# Altium integrated library TI Logic Flip-Flop.IntLib: 904 symbols (part 1 of 21)
Pins are listed as number, name and electrical type; pins without a type are passive.

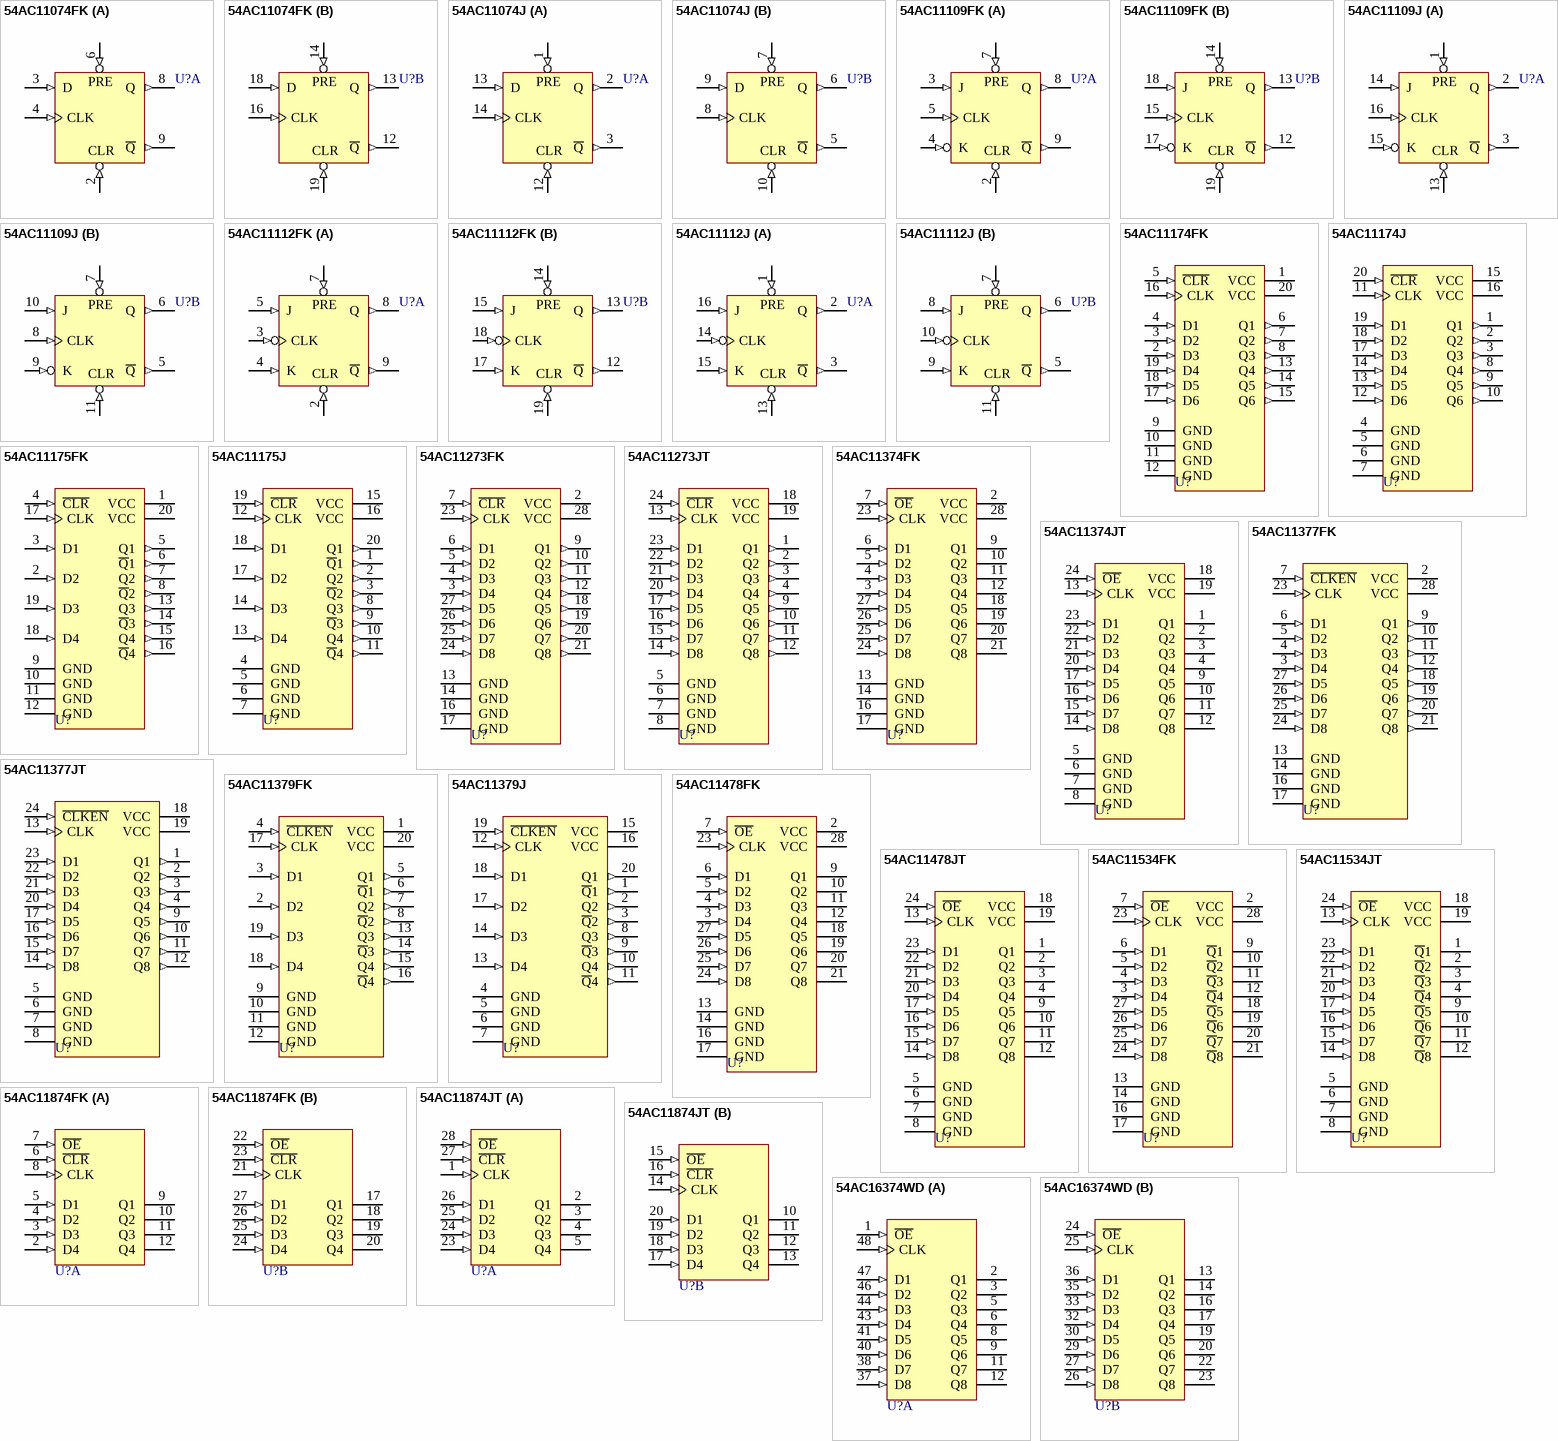
[diagram p0: symbols 54AC11074FK to 54AC16374WD]

## 54AC11074FK
designator U?
Dual D-Type Position-Edge-Triggered Flip-Flop with Clear and Preset; Note: Pins No 1,5,7,11,15 and 17 are not connected.; ComponentAvailability: Obsolete; Published: 8-Jun-2000; LatestRevisionDate: 17-Jul-2002; LatestRevisionNote: Re-released for DXP Platform.; DatasheetVersion: Mar-1990; PackageVersion: 1998; PackageReference: FK020D; Publisher: Altium Limited; PackageDescription: Leadless Chip Carrier; 20 Terminals; Body 8.9 x 8.9 mm; ComponentLink1Description: Manufacturer Link; ComponentLink1URL: http://www.ti.com/; ComponentLink2Description: Discontinuation Notice; ComponentLink2URL: http://focus.ti.com/pdfs/mltry/obsolete.pdf
footprint FK020D (Leadless Chip Carrier; 20 Terminals; Body 8.9 x 8.9 mm)
signal-integrity model 54AC11074FK
pins on every part: 10 GND (power) hidden to GND, 20 VCC (power) hidden to VCC
part A pins: 2 CLR (in), 3 D (in), 4 CLK (in), 6 PRE (in), 8 Q (out), 9 ~{Q} (out)
part B pins: 12 ~{Q} (out), 13 Q (out), 14 PRE (in), 16 CLK (in), 18 D (in), 19 CLR (in)

## 54AC11074J
designator U?
Dual D-Type Position-Edge-Triggered Flip-Flop with Clear and Preset; ComponentAvailability: Obsolete; Published: 8-Jun-2000; LatestRevisionDate: 04-Mar-2005; LatestRevisionNote: Stylized 3D Model Added.; DatasheetVersion: Mar-1990; PackageVersion: Jun-1999; PackageReference: J014D; Publisher: Altium Limited; PackageDescription: DIP; 14 Leads; Row Spacing 7.62 mm; Pitch 2.54 mm; ComponentLink1Description: Manufacturer Link; ComponentLink1URL: http://www.ti.com/; ComponentLink2Description: Discontinuation Notice; ComponentLink2URL: http://focus.ti.com/pdfs/mltry/obsolete.pdf
footprint J014D (DIP; 14 Leads; Row Spacing 7.62 mm; Pitch 2.54 mm)
3D model J014 (DIP; 14 Leads; Row Spacing 7.62 mm; Pitch 2.54 mm)
signal-integrity model 54AC11074J
pins on every part: 4 GND (power) hidden to GND, 11 VCC (power) hidden to VCC
part A pins: 1 PRE (in), 2 Q (out), 3 ~{Q} (out), 12 CLR (in), 13 D (in), 14 CLK (in)
part B pins: 5 ~{Q} (out), 6 Q (out), 7 PRE (in), 8 CLK (in), 9 D (in), 10 CLR (in)

## 54AC11109FK
designator U?
Dual J-K Positive-Edge-Triggered Flip-Flop with Clear and Preset; Note: Pins 1, 6,11 and 16 are not connected.; ComponentAvailability: Obsolete; Published: 8-Jun-2000; LatestRevisionDate: 17-Jul-2002; LatestRevisionNote: Re-released for DXP Platform.; DatasheetVersion: Mar-1990; PackageVersion: 1998; PackageReference: FK020D; Publisher: Altium Limited; PackageDescription: Leadless Chip Carrier; 20 Terminals; Body 8.9 x 8.9 mm; ComponentLink1Description: Manufacturer Link; ComponentLink1URL: http://www.ti.com/; ComponentLink2Description: Discontinuation Notice; ComponentLink2URL: http://focus.ti.com/pdfs/mltry/obsolete.pdf
footprint FK020D (Leadless Chip Carrier; 20 Terminals; Body 8.9 x 8.9 mm)
signal-integrity model 54AC11109FK
pins on every part: 10 GND (power) hidden to GND, 20 VCC (power) hidden to VCC
part A pins: 2 CLR (in), 3 J (in), 4 K (in), 5 CLK (in), 7 PRE (in), 8 Q (out), 9 ~{Q} (out)
part B pins: 12 ~{Q} (out), 13 Q (out), 14 PRE (in), 15 CLK (in), 17 K (in), 18 J (in), 19 CLR (in)

## 54AC11109J
designator U?
Dual J-K Positive-Edge-Triggered Flip-Flop with Clear and Preset; ComponentAvailability: Obsolete; Published: 8-Jun-2000; LatestRevisionDate: 04-Mar-2005; LatestRevisionNote: Stylized 3D Model Added.; DatasheetVersion: Mar-1990; PackageVersion: Jun-1999; PackageReference: J016D; Publisher: Altium Limited; PackageDescription: DIP; 16 Leads; Row Spacing 7.62 mm; Pitch 2.54 mm; ComponentLink1Description: Manufacturer Link; ComponentLink1URL: http://www.ti.com/; ComponentLink2Description: Discontinuation Notice; ComponentLink2URL: http://focus.ti.com/pdfs/mltry/obsolete.pdf
footprint J016D (DIP; 16 Leads; Row Spacing 7.62 mm; Pitch 2.54 mm)
3D model J016 (DIP; 16 Leads; Row Spacing 7.62 mm; Pitch 2.54 mm)
signal-integrity model 54AC11109J
pins on every part: 4 GND (power) hidden to GND, 12 VCC (power) hidden to VCC
part A pins: 1 PRE (in), 2 Q (out), 3 ~{Q} (out), 13 CLR (in), 14 J (in), 15 K (in), 16 CLK (in)
part B pins: 5 ~{Q} (out), 6 Q (out), 7 PRE (in), 8 CLK (in), 9 K (in), 10 J (in), 11 CLR (in)

## 54AC11112FK
designator U?
Dual J-K Negative-Edge-Triggered Flip-Flop with Clear and Preset; Note: Pins 1, 6,11 and 16 are not connected; Published: 8-Jun-2000; LatestRevisionDate: 17-Jul-2002; LatestRevisionNote: Re-released for DXP Platform.; DatasheetVersion: Mar-1990; PackageVersion: 1998; PackageReference: FK020D; Publisher: Altium Limited; PackageDescription: Leadless Chip Carrier; 20 Terminals; Body 8.9 x 8.9 mm; ComponentLink1Description: Manufacturer Link; ComponentLink1URL: http://www.ti.com/; ComponentLink2Description: Datasheet; ComponentLink2URL: http://www-s.ti.com/sc/ds/74ac11112.pdf
footprint FK020D (Leadless Chip Carrier; 20 Terminals; Body 8.9 x 8.9 mm)
signal-integrity model 54AC11112FK
pins on every part: 10 GND (power) hidden to GND, 20 VCC (power) hidden to VCC
part A pins: 2 CLR (in), 3 CLK (in), 4 K (in), 5 J (in), 7 PRE (in), 8 Q (out), 9 ~{Q} (out)
part B pins: 12 ~{Q} (out), 13 Q (out), 14 PRE (in), 15 J (in), 17 K (in), 18 CLK (in), 19 CLR (in)

## 54AC11112J
designator U?
Dual J-K Negative-Edge-Triggered Flip-Flop with Clear and Preset; Published: 8-Jun-2000; LatestRevisionDate: 04-Mar-2005; LatestRevisionNote: Stylized 3D Model Added.; DatasheetVersion: Mar-1990; PackageVersion: Jun-1999; PackageReference: J016D; Publisher: Altium Limited; PackageDescription: DIP; 16 Leads; Row Spacing 7.62 mm; Pitch 2.54 mm; ComponentLink1Description: Manufacturer Link; ComponentLink1URL: http://www.ti.com/; ComponentLink2Description: Datasheet; ComponentLink2URL: http://www-s.ti.com/sc/ds/74ac11112.pdf
footprint J016D (DIP; 16 Leads; Row Spacing 7.62 mm; Pitch 2.54 mm)
3D model J016 (DIP; 16 Leads; Row Spacing 7.62 mm; Pitch 2.54 mm)
signal-integrity model 54AC11112J
pins on every part: 4 GND (power) hidden to GND, 12 VCC (power) hidden to VCC
part A pins: 1 PRE (in), 2 Q (out), 3 ~{Q} (out), 13 CLR (in), 14 CLK (in), 15 K (in), 16 J (in)
part B pins: 5 ~{Q} (out), 6 Q (out), 7 PRE (in), 8 J (in), 9 K (in), 10 CLK (in), 11 CLR (in)

## 54AC11174FK
designator U?
Hex D-Type Flip-Flop with Clear; Published: 8-Jun-2000; LatestRevisionDate: 17-Jul-2002; LatestRevisionNote: Re-released for DXP Platform.; DatasheetVersion: Mar-1990; PackageVersion: 1998; PackageReference: FK020D; Publisher: Altium Limited; PackageDescription: Leadless Chip Carrier; 20 Terminals; Body 8.9 x 8.9 mm; ComponentLink1Description: Manufacturer Link; ComponentLink1URL: http://www.ti.com/
footprint FK020D (Leadless Chip Carrier; 20 Terminals; Body 8.9 x 8.9 mm)
signal-integrity model 54AC11174FK
pins: 1 VCC (power), 2 D3 (in), 3 D2 (in), 4 D1 (in), 5 ~{CLR} (in), 6 Q1 (out), 7 Q2 (out), 8 Q3 (out), 9 GND (power), 10 GND (power), 11 GND (power), 12 GND (power), 13 Q4 (out), 14 Q5 (out), 15 Q6 (out), 16 CLK (in), 17 D6 (in), 18 D5 (in), 19 D4 (in), 20 VCC (power)

## 54AC11174J
designator U?
Hex D-Type Flip-Flop with Clear; Published: 8-Jun-2000; LatestRevisionDate: 04-Mar-2005; LatestRevisionNote: Stylized 3D Model Added.; DatasheetVersion: Mar-1990; PackageVersion: Jun-1999; PackageReference: J020D; Publisher: Altium Limited; PackageDescription: DIP; 20 Leads; Row Spacing 7.62 mm; Pitch 2.54 mm; ComponentLink1Description: Manufacturer Link; ComponentLink1URL: http://www.ti.com/
footprint J020D (DIP; 20 Leads; Row Spacing 7.62 mm; Pitch 2.54 mm)
3D model J020 (DIP; 20 Leads; Row Spacing 7.62 mm; Pitch 2.54 mm)
signal-integrity model 54AC11174J
pins: 1 Q1 (out), 2 Q2 (out), 3 Q3 (out), 4 GND (power), 5 GND (power), 6 GND (power), 7 GND (power), 8 Q4 (out), 9 Q5 (out), 10 Q6 (out), 11 CLK (in), 12 D6 (in), 13 D5 (in), 14 D4 (in), 15 VCC (power), 16 VCC (power), 17 D3 (in), 18 D2 (in), 19 D1 (in), 20 ~{CLR} (in)

## 54AC11175FK
designator U?
Quadruple D-Type Flip-Flop with Clear; Published: 8-Jun-2000; LatestRevisionDate: 17-Jul-2002; LatestRevisionNote: Re-released for DXP Platform.; DatasheetVersion: Mar-1990; PackageVersion: 1998; PackageReference: FK020D; Publisher: Altium Limited; PackageDescription: Leadless Chip Carrier; 20 Terminals; Body 8.9 x 8.9 mm; ComponentLink1Description: Manufacturer Link; ComponentLink1URL: http://www.ti.com/; ComponentLink2Description: Datasheet; ComponentLink2URL: http://www-s.ti.com/sc/ds/74ac11175.pdf
footprint FK020D (Leadless Chip Carrier; 20 Terminals; Body 8.9 x 8.9 mm)
signal-integrity model 54AC11175FK
pins: 1 VCC (power), 2 D2 (in), 3 D1 (in), 4 ~{CLR} (in), 5 Q1 (out), 6 ~{Q}1 (out), 7 Q2 (out), 8 ~{Q}2 (out), 9 GND (power), 10 GND (power), 11 GND (power), 12 GND (power), 13 Q3 (out), 14 ~{Q}3 (out), 15 Q4 (out), 16 ~{Q}4 (out), 17 CLK (in), 18 D4 (in), 19 D3 (in), 20 VCC (power)

## 54AC11175J
designator U?
Quadruple D-Type Flip-Flop with Clear; Published: 8-Jun-2000; LatestRevisionDate: 04-Mar-2005; LatestRevisionNote: Stylized 3D Model Added.; DatasheetVersion: Mar-1990; PackageVersion: Jun-1999; PackageReference: J020D; Publisher: Altium Limited; PackageDescription: DIP; 20 Leads; Row Spacing 7.62 mm; Pitch 2.54 mm; ComponentLink1Description: Manufacturer Link; ComponentLink1URL: http://www.ti.com/; ComponentLink2Description: Datasheet; ComponentLink2URL: http://www-s.ti.com/sc/ds/74ac11175.pdf
footprint J020D (DIP; 20 Leads; Row Spacing 7.62 mm; Pitch 2.54 mm)
3D model J020 (DIP; 20 Leads; Row Spacing 7.62 mm; Pitch 2.54 mm)
signal-integrity model 54AC11175J
pins: 1 ~{Q}1 (out), 2 Q2 (out), 3 ~{Q}2 (out), 4 GND (power), 5 GND (power), 6 GND (power), 7 GND (power), 8 Q3 (out), 9 ~{Q}3 (out), 10 Q4 (out), 11 ~{Q}4 (out), 12 CLK (in), 13 D4 (in), 14 D3 (in), 15 VCC (power), 16 VCC (power), 17 D2 (in), 18 D1 (in), 19 ~{CLR} (in), 20 Q1 (out)

## 54AC11273FK
designator U?
Octal D-Type Flip-Flop with Clear; Note: Pins No 1,8,15 and 22 are not connected.; Published: 8-Jun-2000; LatestRevisionDate: 17-Jul-2002; LatestRevisionNote: Re-released for DXP Platform.; DatasheetVersion: Mar-1990; PackageVersion: 1998; PackageReference: FK028D; Publisher: Altium Limited; PackageDescription: Leadless Chip Carrier; 28 Terminals; Body 11.4 x 11.4 mm; ComponentLink1Description: Manufacturer Link; ComponentLink1URL: http://www.ti.com/
footprint FK028D (Leadless Chip Carrier; 28 Terminals; Body 11.4 x 11.4 mm)
signal-integrity model 54AC11273FK
pins: 2 VCC (power), 3 D4 (in), 4 D3 (in), 5 D2 (in), 6 D1 (in), 7 ~{CLR} (in), 9 Q1 (out), 10 Q2 (out), 11 Q3 (out), 12 Q4 (out), 13 GND (power), 14 GND (power), 16 GND (power), 17 GND (power), 18 Q5 (out), 19 Q6 (out), 20 Q7 (out), 21 Q8 (out), 23 CLK (in), 24 D8 (in), 25 D7 (in), 26 D6 (in), 27 D5 (in), 28 VCC (power)

## 54AC11273JT
designator U?
Octal D-Type Flip-Flop with Clear; Published: 8-Jun-2000; LatestRevisionDate: 04-Mar-2005; LatestRevisionNote: Stylized 3D Model Added.; DatasheetVersion: Mar-1990; PackageVersion: Jan-1997; PackageReference: JT024D; Publisher: Altium Limited; PackageDescription: DIP; 24 Leads; Row Spacing 7.62 mm; Pitch 2.54 mm; Code_JEDEC: MS-001-AF; ComponentLink1Description: Manufacturer Link; ComponentLink1URL: http://www.ti.com/
footprint JT024D (DIP; 24 Leads; Row Spacing 7.62 mm; Pitch 2.54 mm)
3D model JT024 (DIP; 24 Leads; Row Spacing 7.62 mm; Pitch 2.54 mm)
signal-integrity model 54AC11273JT
pins: 1 Q1 (out), 2 Q2 (out), 3 Q3 (out), 4 Q4 (out), 5 GND (power), 6 GND (power), 7 GND (power), 8 GND (power), 9 Q5 (out), 10 Q6 (out), 11 Q7 (out), 12 Q8 (out), 13 CLK (in), 14 D8 (in), 15 D7 (in), 16 D6 (in), 17 D5 (in), 18 VCC (power), 19 VCC (power), 20 D4 (in), 21 D3 (in), 22 D2 (in), 23 D1 (in), 24 ~{CLR} (in)

## 54AC11374FK
designator U?
Octal D-Type Edge-Triggered Flip-Flop with 3-State Outputs; Note: Pins No 1,8,15 and 22 are not connected.; ComponentAvailability: Obsolete; Published: 8-Jun-2000; LatestRevisionDate: 17-Jul-2002; LatestRevisionNote: Re-released for DXP Platform.; DatasheetVersion: Mar-1990; PackageVersion: 1998; PackageReference: FK028D; Publisher: Altium Limited; PackageDescription: Leadless Chip Carrier; 28 Terminals; Body 11.4 x 11.4 mm; ComponentLink1Description: Manufacturer Link; ComponentLink1URL: http://www.ti.com/; ComponentLink2Description: Discontinuation Notice; ComponentLink2URL: http://focus.ti.com/pdfs/mltry/obsolete.pdf
footprint FK028D (Leadless Chip Carrier; 28 Terminals; Body 11.4 x 11.4 mm)
signal-integrity model 54AC11374FK
pins: 2 VCC (power), 3 D4 (in), 4 D3 (in), 5 D2 (in), 6 D1 (in), 7 ~{OE} (in), 9 Q1 (hiz), 10 Q2 (hiz), 11 Q3 (hiz), 12 Q4 (hiz), 13 GND (power), 14 GND (power), 16 GND (power), 17 GND (power), 18 Q5 (hiz), 19 Q6 (hiz), 20 Q7 (hiz), 21 Q8 (hiz), 23 CLK (in), 24 D8 (in), 25 D7 (in), 26 D6 (in), 27 D5 (in), 28 VCC (power)

## 54AC11374JT
designator U?
Octal D-Type Edge-Triggered Flip-Flop with 3-State Outputs; ComponentAvailability: Obsolete; Published: 8-Jun-2000; LatestRevisionDate: 04-Mar-2005; LatestRevisionNote: Stylized 3D Model Added.; DatasheetVersion: Mar-1990; PackageVersion: Jan-1997; PackageReference: JT024D; Publisher: Altium Limited; PackageDescription: DIP; 24 Leads; Row Spacing 7.62 mm; Pitch 2.54 mm; Code_JEDEC: MS-001-AF; ComponentLink1Description: Manufacturer Link; ComponentLink1URL: http://www.ti.com/; ComponentLink2Description: Discontinuation Notice; ComponentLink2URL: http://focus.ti.com/pdfs/mltry/obsolete.pdf
footprint JT024D (DIP; 24 Leads; Row Spacing 7.62 mm; Pitch 2.54 mm)
3D model JT024 (DIP; 24 Leads; Row Spacing 7.62 mm; Pitch 2.54 mm)
signal-integrity model 54AC11374JT
pins: 1 Q1 (hiz), 2 Q2 (hiz), 3 Q3 (hiz), 4 Q4 (hiz), 5 GND (power), 6 GND (power), 7 GND (power), 8 GND (power), 9 Q5 (hiz), 10 Q6 (hiz), 11 Q7 (hiz), 12 Q8 (hiz), 13 CLK (in), 14 D8 (in), 15 D7 (in), 16 D6 (in), 17 D5 (in), 18 VCC (power), 19 VCC (power), 20 D4 (in), 21 D3 (in), 22 D2 (in), 23 D1 (in), 24 ~{OE} (in)

## 54AC11377FK
designator U?
Octal D-Type Flip-Flop with Clock Enable; Note: Pins No 1,8,15 and 22 are not connected.; Published: 8-Jun-2000; LatestRevisionDate: 17-Jul-2002; LatestRevisionNote: Re-released for DXP Platform.; DatasheetVersion: Mar-1990; PackageVersion: 1998; PackageReference: FK028D; Publisher: Altium Limited; PackageDescription: Leadless Chip Carrier; 28 Terminals; Body 11.4 x 11.4 mm; ComponentLink1Description: Manufacturer Link; ComponentLink1URL: http://www.ti.com/
footprint FK028D (Leadless Chip Carrier; 28 Terminals; Body 11.4 x 11.4 mm)
signal-integrity model 54AC11377FK
pins: 2 VCC (power), 3 D4 (in), 4 D3 (in), 5 D2 (in), 6 D1 (in), 7 ~{CLKEN} (in), 9 Q1 (out), 10 Q2 (out), 11 Q3 (out), 12 Q4 (out), 13 GND (power), 14 GND (power), 16 GND (power), 17 GND (power), 18 Q5 (out), 19 Q6 (out), 20 Q7 (out), 21 Q8 (out), 23 CLK (in), 24 D8 (in), 25 D7 (in), 26 D6 (in), 27 D5 (in), 28 VCC (power)

## 54AC11377JT
designator U?
Octal D-Type Flip-Flop with Clock Enable; Published: 8-Jun-2000; LatestRevisionDate: 04-Mar-2005; LatestRevisionNote: Stylized 3D Model Added.; DatasheetVersion: Mar-1990; PackageVersion: Jan-1997; PackageReference: JT024D; Publisher: Altium Limited; PackageDescription: DIP; 24 Leads; Row Spacing 7.62 mm; Pitch 2.54 mm; Code_JEDEC: MS-001-AF; ComponentLink1Description: Manufacturer Link; ComponentLink1URL: http://www.ti.com/
footprint JT024D (DIP; 24 Leads; Row Spacing 7.62 mm; Pitch 2.54 mm)
3D model JT024 (DIP; 24 Leads; Row Spacing 7.62 mm; Pitch 2.54 mm)
signal-integrity model 54AC11377JT
pins: 1 Q1 (out), 2 Q2 (out), 3 Q3 (out), 4 Q4 (out), 5 GND (power), 6 GND (power), 7 GND (power), 8 GND (power), 9 Q5 (out), 10 Q6 (out), 11 Q7 (out), 12 Q8 (out), 13 CLK (in), 14 D8 (in), 15 D7 (in), 16 D6 (in), 17 D5 (in), 18 VCC (power), 19 VCC (power), 20 D4 (in), 21 D3 (in), 22 D2 (in), 23 D1 (in), 24 ~{CLKEN} (in)

## 54AC11379FK
designator U?
Quadruple D-Type Flip-Flop with Clock Enable; Published: 8-Jun-2000; LatestRevisionDate: 17-Jul-2002; LatestRevisionNote: Re-released for DXP Platform.; DatasheetVersion: Mar-1990; PackageVersion: 1998; PackageReference: FK020D; Publisher: Altium Limited; PackageDescription: Leadless Chip Carrier; 20 Terminals; Body 8.9 x 8.9 mm; ComponentLink1Description: Manufacturer Link; ComponentLink1URL: http://www.ti.com/
footprint FK020D (Leadless Chip Carrier; 20 Terminals; Body 8.9 x 8.9 mm)
signal-integrity model 54AC11379FK
pins: 1 VCC (power), 2 D2 (in), 3 D1 (in), 4 ~{CLKEN} (in), 5 Q1 (out), 6 ~{Q}1 (out), 7 Q2 (out), 8 ~{Q}2 (out), 9 GND (power), 10 GND (power), 11 GND (power), 12 GND (power), 13 Q3 (out), 14 ~{Q}3 (out), 15 Q4 (out), 16 ~{Q}4 (out), 17 CLK (in), 18 D4 (in), 19 D3 (in), 20 VCC (power)

## 54AC11379J
designator U?
Quadruple D-Type Flip-Flop with Clock Enable; Published: 8-Jun-2000; LatestRevisionDate: 04-Mar-2005; LatestRevisionNote: Stylized 3D Model Added.; DatasheetVersion: Mar-1990; PackageVersion: Jun-1999; PackageReference: J020D; Publisher: Altium Limited; PackageDescription: DIP; 20 Leads; Row Spacing 7.62 mm; Pitch 2.54 mm; ComponentLink1Description: Manufacturer Link; ComponentLink1URL: http://www.ti.com/
footprint J020D (DIP; 20 Leads; Row Spacing 7.62 mm; Pitch 2.54 mm)
3D model J020 (DIP; 20 Leads; Row Spacing 7.62 mm; Pitch 2.54 mm)
signal-integrity model 54AC11379J
pins: 1 ~{Q}1 (out), 2 Q2 (out), 3 ~{Q}2 (out), 4 GND (power), 5 GND (power), 6 GND (power), 7 GND (power), 8 Q3 (out), 9 ~{Q}3 (out), 10 Q4 (out), 11 ~{Q}4 (out), 12 CLK (in), 13 D4 (in), 14 D3 (in), 15 VCC (power), 16 VCC (power), 17 D2 (in), 18 D1 (in), 19 ~{CLKEN} (in), 20 Q1 (out)

## 54AC11478FK
designator U?
Metastable-Resistant Octal D-Type Dual-Rank Flip-Flop with 3-State Output; Note: Pins No 1,8,15 and 22 are not connected.; Published: 8-Jun-2000; LatestRevisionDate: 17-Jul-2002; LatestRevisionNote: Re-released for DXP Platform.; DatasheetVersion: Apr-1990; PackageVersion: 1998; PackageReference: FK028D; Publisher: Altium Limited; PackageDescription: Leadless Chip Carrier; 28 Terminals; Body 11.4 x 11.4 mm; ComponentLink1Description: Manufacturer Link; ComponentLink1URL: http://www.ti.com/
footprint FK028D (Leadless Chip Carrier; 28 Terminals; Body 11.4 x 11.4 mm)
signal-integrity model 54AC11478FK
pins: 2 VCC (power), 3 D4 (in), 4 D3 (in), 5 D2 (in), 6 D1 (in), 7 ~{OE} (in), 9 Q1 (hiz), 10 Q2 (hiz), 11 Q3 (hiz), 12 Q4 (hiz), 13 GND (power), 14 GND (power), 16 GND (power), 17 GND (power), 18 Q5 (hiz), 19 Q6 (hiz), 20 Q7 (hiz), 21 Q8 (hiz), 23 CLK (in), 24 D8 (in), 25 D7 (in), 26 D6 (in), 27 D5 (in), 28 VCC (power)

## 54AC11478JT
designator U?
Metastable-Resistant Octal D-Type Dual-Rank Flip-Flop with 3-State Output; Published: 8-Jun-2000; LatestRevisionDate: 04-Mar-2005; LatestRevisionNote: Stylized 3D Model Added.; DatasheetVersion: Apr-1990; PackageVersion: Jan-1997; PackageReference: JT024D; Publisher: Altium Limited; PackageDescription: DIP; 24 Leads; Row Spacing 7.62 mm; Pitch 2.54 mm; Code_JEDEC: MS-001-AF; ComponentLink1Description: Manufacturer Link; ComponentLink1URL: http://www.ti.com/
footprint JT024D (DIP; 24 Leads; Row Spacing 7.62 mm; Pitch 2.54 mm)
3D model JT024 (DIP; 24 Leads; Row Spacing 7.62 mm; Pitch 2.54 mm)
signal-integrity model 54AC11478JT
pins: 1 Q1 (hiz), 2 Q2 (hiz), 3 Q3 (hiz), 4 Q4 (hiz), 5 GND (power), 6 GND (power), 7 GND (power), 8 GND (power), 9 Q5 (hiz), 10 Q6 (hiz), 11 Q7 (hiz), 12 Q8 (hiz), 13 CLK (in), 14 D8 (in), 15 D7 (in), 16 D6 (in), 17 D5 (in), 18 VCC (power), 19 VCC (power), 20 D4 (in), 21 D3 (in), 22 D2 (in), 23 D1 (in), 24 ~{OE} (in)

## 54AC11534FK
designator U?
Octal D-Type Edge-Triggered Flip-Flop with 3-State Outputs; Note: Pins No 1,8,15 and 22 are not connected.; Published: 8-Jun-2000; LatestRevisionDate: 17-Jul-2002; LatestRevisionNote: Re-released for DXP Platform.; DatasheetVersion: Mar-1990; PackageVersion: 1998; PackageReference: FK028D; Publisher: Altium Limited; PackageDescription: Leadless Chip Carrier; 28 Terminals; Body 11.4 x 11.4 mm; ComponentLink1Description: Manufacturer Link; ComponentLink1URL: http://www.ti.com/; ComponentLink2Description: Datasheet; ComponentLink2URL: http://www-s.ti.com/sc/ds/74ac11534.pdf
footprint FK028D (Leadless Chip Carrier; 28 Terminals; Body 11.4 x 11.4 mm)
signal-integrity model 54AC11534FK
pins: 2 VCC (power), 3 D4 (in), 4 D3 (in), 5 D2 (in), 6 D1 (in), 7 ~{OE} (in), 9 ~{Q}1 (hiz), 10 ~{Q}2 (hiz), 11 ~{Q}3 (hiz), 12 ~{Q}4 (hiz), 13 GND (power), 14 GND (power), 16 GND (power), 17 GND (power), 18 ~{Q}5 (hiz), 19 ~{Q}6 (hiz), 20 ~{Q}7 (hiz), 21 ~{Q}8 (hiz), 23 CLK (in), 24 D8 (in), 25 D7 (in), 26 D6 (in), 27 D5 (in), 28 VCC (power)

## 54AC11534JT
designator U?
Octal D-Type Edge-Triggered Flip-Flop with 3-State Outputs; Published: 8-Jun-2000; LatestRevisionDate: 04-Mar-2005; LatestRevisionNote: Stylized 3D Model Added.; DatasheetVersion: Mar-1990; PackageVersion: Jan-1997; PackageReference: JT024D; Publisher: Altium Limited; PackageDescription: DIP; 24 Leads; Row Spacing 7.62 mm; Pitch 2.54 mm; Code_JEDEC: MS-001-AF; ComponentLink1Description: Manufacturer Link; ComponentLink1URL: http://www.ti.com/; ComponentLink2Description: Datasheet; ComponentLink2URL: http://www-s.ti.com/sc/ds/74ac11534.pdf
footprint JT024D (DIP; 24 Leads; Row Spacing 7.62 mm; Pitch 2.54 mm)
3D model JT024 (DIP; 24 Leads; Row Spacing 7.62 mm; Pitch 2.54 mm)
signal-integrity model 54AC11534JT
pins: 1 ~{Q}1 (hiz), 2 ~{Q}2 (hiz), 3 ~{Q}3 (hiz), 4 ~{Q}4 (hiz), 5 GND (power), 6 GND (power), 7 GND (power), 8 GND (power), 9 ~{Q}5 (hiz), 10 ~{Q}6 (hiz), 11 ~{Q}7 (hiz), 12 ~{Q}8 (hiz), 13 CLK (in), 14 D8 (in), 15 D7 (in), 16 D6 (in), 17 D5 (in), 18 VCC (power), 19 VCC (power), 20 D4 (in), 21 D3 (in), 22 D2 (in), 23 D1 (in), 24 ~{OE} (in)

## 54AC11874FK
designator U?
Dual 4-Bit D-Type Edge-Triggered Flip-Flop with 3-State Outputs; Published: 8-Jun-2000; LatestRevisionDate: 17-Jul-2002; LatestRevisionNote: Re-released for DXP Platform.; DatasheetVersion: Mar-1990; PackageVersion: 1998; PackageReference: FK028D; Publisher: Altium Limited; PackageDescription: Leadless Chip Carrier; 28 Terminals; Body 11.4 x 11.4 mm; ComponentLink1Description: Manufacturer Link; ComponentLink1URL: http://www.ti.com/
footprint FK028D (Leadless Chip Carrier; 28 Terminals; Body 11.4 x 11.4 mm)
signal-integrity model 54AC11874FK
pins on every part: 1 VCC (power) hidden to VCC, 13 GND (power) hidden to GND, 14 GND (power) hidden to GND, 15 GND (power) hidden to GND, 16 GND (power) hidden to GND, 28 VCC (power) hidden to VCC
part A pins: 2 D4 (in), 3 D3 (in), 4 D2 (in), 5 D1 (in), 6 ~{CLR} (in), 7 ~{OE} (in), 8 CLK (in), 9 Q1 (hiz), 10 Q2 (hiz), 11 Q3 (hiz), 12 Q4 (hiz)
part B pins: 17 Q1 (hiz), 18 Q2 (hiz), 19 Q3 (hiz), 20 Q4 (hiz), 21 CLK (in), 22 ~{OE} (in), 23 ~{CLR} (in), 24 D4 (in), 25 D3 (in), 26 D2 (in), 27 D1 (in)

## 54AC11874JT
designator U?
Dual 4-Bit D-Type Edge-Triggered Flip-Flop with 3-State Outputs; Published: 8-Jun-2000; LatestRevisionDate: 04-Mar-2005; LatestRevisionNote: Stylized 3D Model Added.; DatasheetVersion: Mar-1990; PackageVersion: Jan-1997; PackageReference: JT028D; Publisher: Altium Limited; PackageDescription: DIP; 28 Leads; Row Spacing 7.62 mm; Pitch 2.54 mm; ComponentLink1Description: Manufacturer Link; ComponentLink1URL: http://www.ti.com/
footprint JT028D (DIP; 28 Leads; Row Spacing 7.62 mm; Pitch 2.54 mm)
3D model JT028 (DIP; 28 Leads; Row Spacing 7.62 mm; Pitch 2.54 mm)
signal-integrity model 54AC11874JT
pins on every part: 6 GND (power) hidden to GND, 7 GND (power) hidden to GND, 8 GND (power) hidden to GND, 9 GND (power) hidden to GND, 21 VCC (power) hidden to VCC, 22 VCC (power) hidden to VCC
part A pins: 1 CLK (in), 2 Q1 (hiz), 3 Q2 (hiz), 4 Q3 (hiz), 5 Q4 (hiz), 23 D4 (in), 24 D3 (in), 25 D2 (in), 26 D1 (in), 27 ~{CLR} (in), 28 ~{OE} (in)
part B pins: 10 Q1 (hiz), 11 Q2 (hiz), 12 Q3 (hiz), 13 Q4 (hiz), 14 CLK (in), 15 ~{OE} (in), 16 ~{CLR} (in), 17 D4 (in), 18 D3 (in), 19 D2 (in), 20 D1 (in)

## 54AC16374WD
designator U?
16-Bit D-Type Edge-Triggered Flip-Flop with 3-State Outputs; Published: 8-Jun-2000; LatestRevisionDate: 04-Mar-2005; LatestRevisionNote: Stylized 3D Model Added.; DatasheetVersion: Mar-1990; PackageVersion: Jan-1998; PackageReference: WD048; Publisher: Altium Limited; PackageDescription: DFP; 48 Leads; Body 16.3 x 9.9 mm (LxW max); Pitch 0.635 mm; Code_JEDEC: MO-146-AA; ComponentLink1Description: Manufacturer Link; ComponentLink1URL: http://www.ti.com/; ComponentLink2Description: Datasheet; ComponentLink2URL: http://www-s.ti.com/sc/ds/74ac16374.pdf
footprint WD048 (DFP; 48 Leads; Body 16.3 x 9.9 mm (LxW max); Pitch 0.635 mm)
3D model WD048 (DFP; 48 Leads; Body 16.3 x 9.9 mm (LxW max); Pitch 0.635 mm)
signal-integrity model 54AC16374WD
pins on every part: 4 GND (power) hidden to GND, 7 VCC (power) hidden to VCC, 10 GND (power) hidden to GND, 15 GND (power) hidden to GND, 18 VCC (power) hidden to VCC, 21 GND (power) hidden to GND, 28 GND (power) hidden to GND, 31 VCC (power) hidden to VCC, 34 GND (power) hidden to GND, 39 GND (power) hidden to GND, 42 VCC (power) hidden to VCC, 45 GND (power) hidden to GND
part A pins: 1 ~{OE} (in), 2 Q1 (hiz), 3 Q2 (hiz), 5 Q3 (hiz), 6 Q4 (hiz), 8 Q5 (hiz), 9 Q6 (hiz), 11 Q7 (hiz), 12 Q8 (hiz), 37 D8 (in), 38 D7 (in), 40 D6 (in), 41 D5 (in), 43 D4 (in), 44 D3 (in), 46 D2 (in), 47 D1 (in), 48 CLK (in)
part B pins: 13 Q1 (hiz), 14 Q2 (hiz), 16 Q3 (hiz), 17 Q4 (hiz), 19 Q5 (hiz), 20 Q6 (hiz), 22 Q7 (hiz), 23 Q8 (hiz), 24 ~{OE} (in), 25 CLK (in), 26 D8 (in), 27 D7 (in), 29 D6 (in), 30 D5 (in), 32 D4 (in), 33 D3 (in), 35 D2 (in), 36 D1 (in)

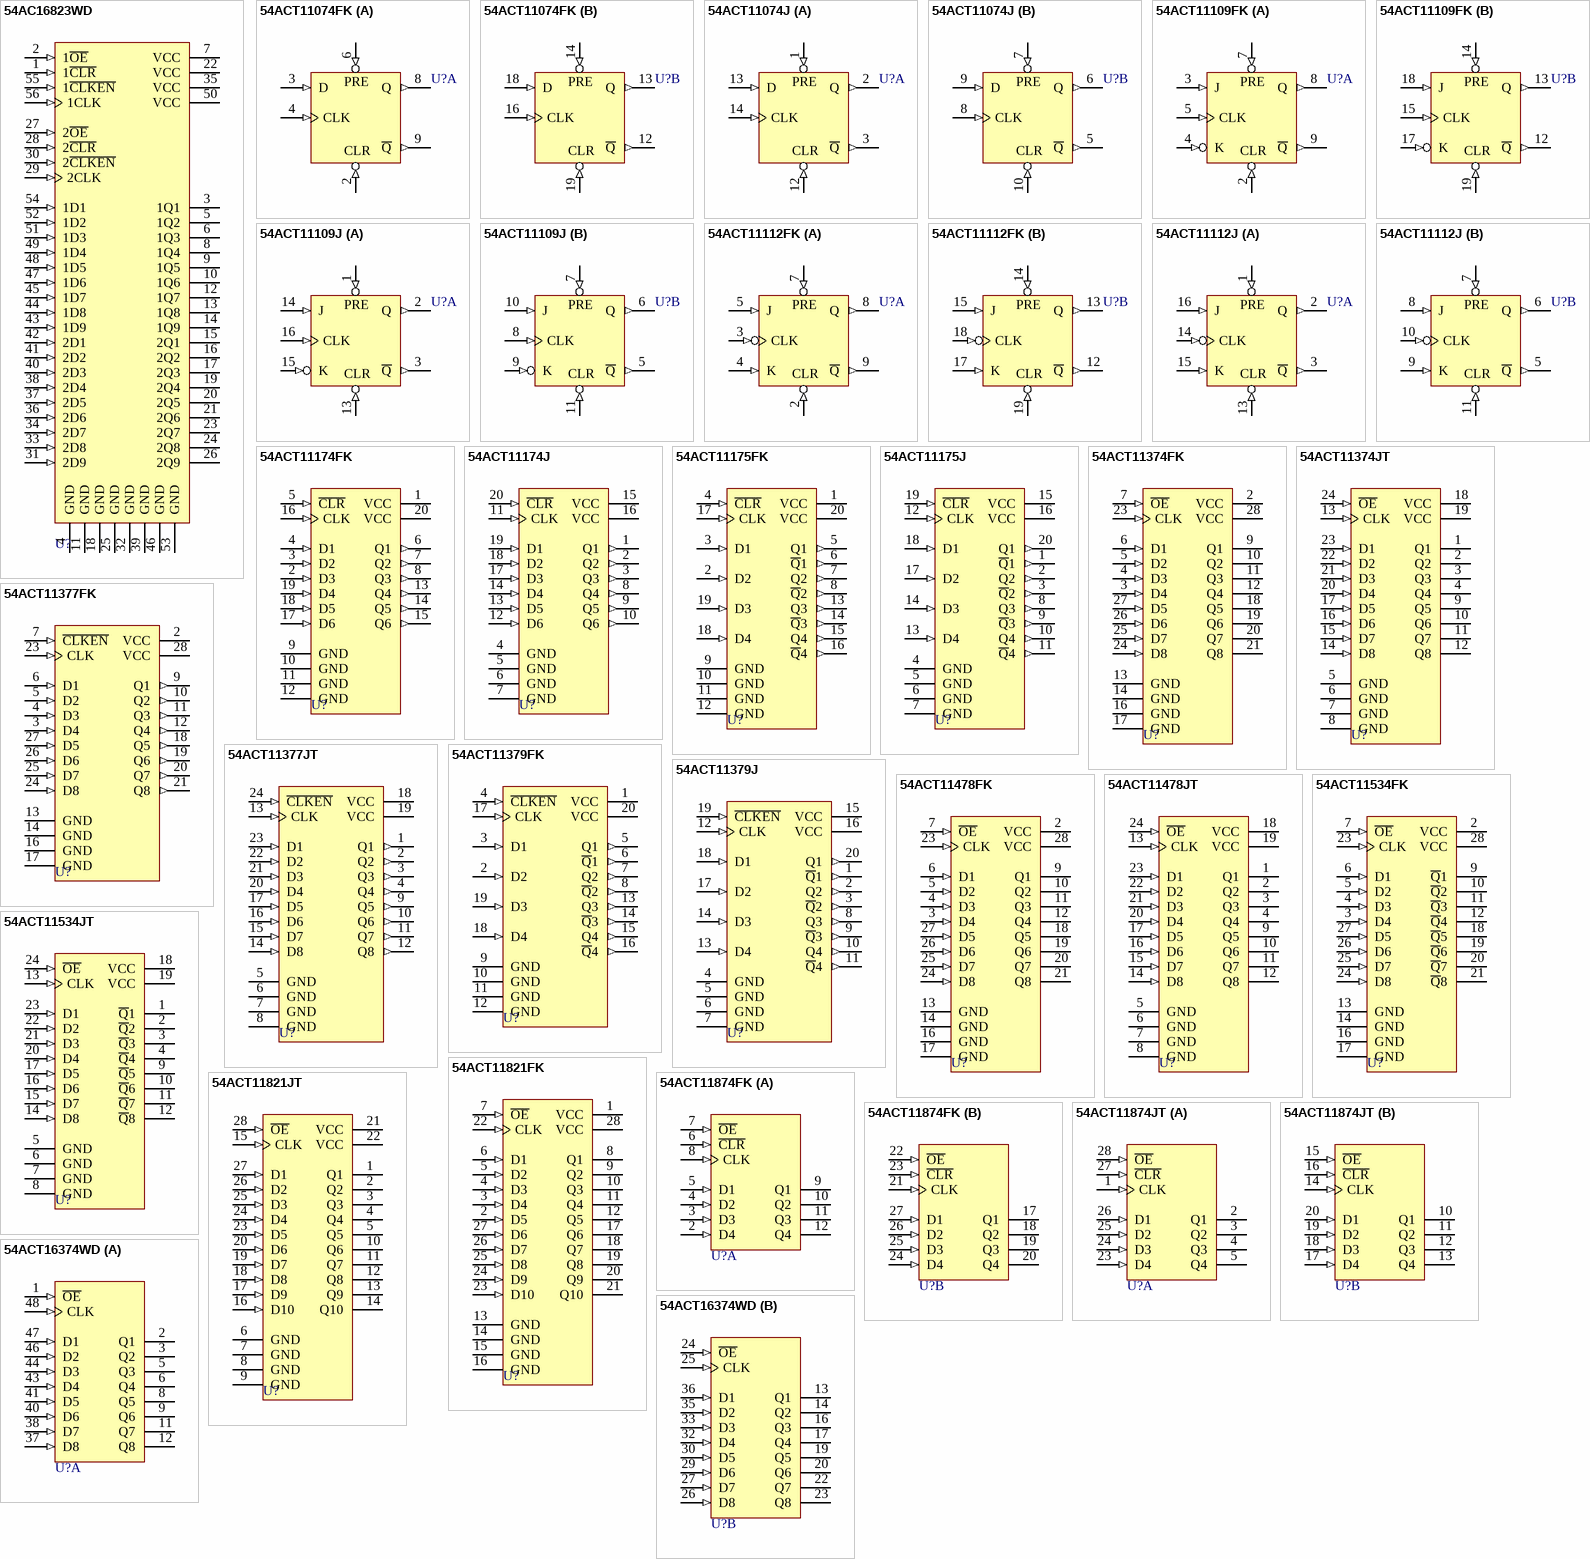
[diagram p1: symbols 54AC16823WD to 54ACT16374WD]

## 54AC16823WD
designator U?
18-Bit Bus-Interface Flip-Flop with 3-State Outputs; Published: 8-Jun-2000; LatestRevisionDate: 04-Mar-2005; LatestRevisionNote: Stylized 3D Model Added.; DatasheetVersion: Apr-1996; PackageVersion: Jan-1998; PackageReference: WD056; Publisher: Altium Limited; PackageDescription: DFP; 56 Leads; Body 18.8 x 9.9 mm (LxW max); Pitch 0.635 mm; Code_JEDEC: MO-146-AB; ComponentLink1Description: Manufacturer Link; ComponentLink1URL: http://www.ti.com/; ComponentLink2Description: Datasheet; ComponentLink2URL: http://focus.ti.com/lit/ds/scas243a/scas243a.pdf
footprint WD056 (DFP; 56 Leads; Body 18.8 x 9.9 mm (LxW max); Pitch 0.635 mm)
3D model WD056 (DFP; 56 Leads; Body 18.8 x 9.9 mm (LxW max); Pitch 0.635 mm)
signal-integrity model 54AC16823WD
pins: 1 1~{CLR} (in), 2 1~{OE} (in), 3 1Q1 (hiz), 4 GND (power), 5 1Q2 (hiz), 6 1Q3 (hiz), 7 VCC (power), 8 1Q4 (hiz), 9 1Q5 (hiz), 10 1Q6 (hiz), 11 GND (power), 12 1Q7 (hiz), 13 1Q8 (hiz), 14 1Q9 (hiz), 15 2Q1 (hiz), 16 2Q2 (hiz), 17 2Q3 (hiz), 18 GND (power), 19 2Q4 (hiz), 20 2Q5 (hiz), 21 2Q6 (hiz), 22 VCC (power), 23 2Q7 (hiz), 24 2Q8 (hiz), 25 GND (power), 26 2Q9 (hiz), 27 2~{OE} (in), 28 2~{CLR} (in), 29 2CLK (in), 30 2~{CLKEN} (in), 31 2D9 (in), 32 GND (power), 33 2D8 (in), 34 2D7 (in), 35 VCC (power), 36 2D6 (in), 37 2D5 (in), 38 2D4 (in), 39 GND (power), 40 2D3 (in), 41 2D2 (in), 42 2D1 (in), 43 1D9 (in), 44 1D8 (in), 45 1D7 (in), 46 GND (power), 47 1D6 (in), 48 1D5 (in), 49 1D4 (in), 50 VCC (power), 51 1D3 (in), 52 1D2 (in), 53 GND (power), 54 1D1 (in), 55 1~{CLKEN} (in), 56 1CLK (in)

## 54ACT11074FK
designator U?
Dual D-Type Positive-Edge-Triggered Flip-Flop with Clear and Preset; Note: Pins No 1,5,7,11,15 and 17 are not connected.; ComponentAvailability: Obsolete; Published: 8-Jun-2000; LatestRevisionDate: 17-Jul-2002; LatestRevisionNote: Re-released for DXP Platform.; DatasheetVersion: Mar-1990; PackageVersion: 1998; PackageReference: FK020D; Publisher: Altium Limited; PackageDescription: Leadless Chip Carrier; 20 Terminals; Body 8.9 x 8.9 mm; ComponentLink1Description: Manufacturer Link; ComponentLink1URL: http://www.ti.com/; ComponentLink2Description: Discontinuation Notice; ComponentLink2URL: http://focus.ti.com/pdfs/mltry/obsolete.pdf
footprint FK020D (Leadless Chip Carrier; 20 Terminals; Body 8.9 x 8.9 mm)
signal-integrity model 54ACT11074FK
pins on every part: 10 GND (power) hidden to GND, 20 VCC (power) hidden to VCC
part A pins: 2 CLR (in), 3 D (in), 4 CLK (in), 6 PRE (in), 8 Q (out), 9 ~{Q} (out)
part B pins: 12 ~{Q} (out), 13 Q (out), 14 PRE (in), 16 CLK (in), 18 D (in), 19 CLR (in)

## 54ACT11074J
designator U?
Dual D-Type Positive-Edge-Triggered Flip-Flop with Clear and Preset; ComponentAvailability: Obsolete; Published: 8-Jun-2000; LatestRevisionDate: 04-Mar-2005; LatestRevisionNote: Stylized 3D Model Added.; DatasheetVersion: Mar-1990; PackageVersion: Jun-1999; PackageReference: J014D; Publisher: Altium Limited; PackageDescription: DIP; 14 Leads; Row Spacing 7.62 mm; Pitch 2.54 mm; ComponentLink1Description: Manufacturer Link; ComponentLink1URL: http://www.ti.com/; ComponentLink2Description: Discontinuation Notice; ComponentLink2URL: http://focus.ti.com/pdfs/mltry/obsolete.pdf
footprint J014D (DIP; 14 Leads; Row Spacing 7.62 mm; Pitch 2.54 mm)
3D model J014 (DIP; 14 Leads; Row Spacing 7.62 mm; Pitch 2.54 mm)
signal-integrity model 54ACT11074J
pins on every part: 4 GND (power) hidden to GND, 11 VCC (power) hidden to VCC
part A pins: 1 PRE (in), 2 Q (out), 3 ~{Q} (out), 12 CLR (in), 13 D (in), 14 CLK (in)
part B pins: 5 ~{Q} (out), 6 Q (out), 7 PRE (in), 8 CLK (in), 9 D (in), 10 CLR (in)

## 54ACT11109FK
designator U?
Dual J-K Positive-Edge-Triggered Flip-Flop with Clear and Preset; Note: Pins 1, 6,11 and 16 are not connected.; ComponentAvailability: Obsolete; Published: 8-Jun-2000; LatestRevisionDate: 17-Jul-2002; LatestRevisionNote: Re-released for DXP Platform.; DatasheetVersion: Jan-1990; PackageVersion: 1998; PackageReference: FK020D; Publisher: Altium Limited; PackageDescription: Leadless Chip Carrier; 20 Terminals; Body 8.9 x 8.9 mm; ComponentLink1Description: Manufacturer Link; ComponentLink1URL: http://www.ti.com/; ComponentLink2Description: Discontinuation Notice; ComponentLink2URL: http://focus.ti.com/pdfs/mltry/obsolete.pdf
footprint FK020D (Leadless Chip Carrier; 20 Terminals; Body 8.9 x 8.9 mm)
signal-integrity model 54ACT11109FK
pins on every part: 10 GND (power) hidden to GND, 20 VCC (power) hidden to VCC
part A pins: 2 CLR (in), 3 J (in), 4 K (in), 5 CLK (in), 7 PRE (in), 8 Q (out), 9 ~{Q} (out)
part B pins: 12 ~{Q} (out), 13 Q (out), 14 PRE (in), 15 CLK (in), 17 K (in), 18 J (in), 19 CLR (in)

## 54ACT11109J
designator U?
Dual J-K Positive-Edge-Triggered Flip-Flop with Clear and Preset; ComponentAvailability: Obsolete; Published: 8-Jun-2000; LatestRevisionDate: 04-Mar-2005; LatestRevisionNote: Stylized 3D Model Added.; DatasheetVersion: Jan-1990; PackageVersion: Jun-1999; PackageReference: J016D; Publisher: Altium Limited; PackageDescription: DIP; 16 Leads; Row Spacing 7.62 mm; Pitch 2.54 mm; ComponentLink1Description: Manufacturer Link; ComponentLink1URL: http://www.ti.com/; ComponentLink2Description: Discontinuation Notice; ComponentLink2URL: http://focus.ti.com/pdfs/mltry/obsolete.pdf
footprint J016D (DIP; 16 Leads; Row Spacing 7.62 mm; Pitch 2.54 mm)
3D model J016 (DIP; 16 Leads; Row Spacing 7.62 mm; Pitch 2.54 mm)
signal-integrity model 54ACT11109J
pins on every part: 4 GND (power) hidden to GND, 12 VCC (power) hidden to VCC
part A pins: 1 PRE (in), 2 Q (out), 3 ~{Q} (out), 13 CLR (in), 14 J (in), 15 K (in), 16 CLK (in)
part B pins: 5 ~{Q} (out), 6 Q (out), 7 PRE (in), 8 CLK (in), 9 K (in), 10 J (in), 11 CLR (in)

## 54ACT11112FK
designator U?
Dual J-K Negative-Edge-Triggered Flip-Flop with Clear and Preset; Note: Pins 1, 6,11 and 16 are not connected; Published: 8-Jun-2000; LatestRevisionDate: 17-Jul-2002; LatestRevisionNote: Re-released for DXP Platform.; DatasheetVersion: Jan-1990; PackageVersion: 1998; PackageReference: FK020D; Publisher: Altium Limited; PackageDescription: Leadless Chip Carrier; 20 Terminals; Body 8.9 x 8.9 mm; ComponentLink1Description: Manufacturer Link; ComponentLink1URL: http://www.ti.com/
footprint FK020D (Leadless Chip Carrier; 20 Terminals; Body 8.9 x 8.9 mm)
signal-integrity model 54ACT11112FK
pins on every part: 10 GND (power) hidden to GND, 20 VCC (power) hidden to VCC
part A pins: 2 CLR (in), 3 CLK (in), 4 K (in), 5 J (in), 7 PRE (in), 8 Q (out), 9 ~{Q} (out)
part B pins: 12 ~{Q} (out), 13 Q (out), 14 PRE (in), 15 J (in), 17 K (in), 18 CLK (in), 19 CLR (in)

## 54ACT11112J
designator U?
Dual J-K Negative-Edge-Triggered Flip-Flop with Clear and Preset; Published: 8-Jun-2000; LatestRevisionDate: 04-Mar-2005; LatestRevisionNote: Stylized 3D Model Added.; DatasheetVersion: Jan-1990; PackageVersion: Jun-1999; PackageReference: J016D; Publisher: Altium Limited; PackageDescription: DIP; 16 Leads; Row Spacing 7.62 mm; Pitch 2.54 mm; ComponentLink1Description: Manufacturer Link; ComponentLink1URL: http://www.ti.com/
footprint J016D (DIP; 16 Leads; Row Spacing 7.62 mm; Pitch 2.54 mm)
3D model J016 (DIP; 16 Leads; Row Spacing 7.62 mm; Pitch 2.54 mm)
signal-integrity model 54ACT11112J
pins on every part: 4 GND (power) hidden to GND, 12 VCC (power) hidden to VCC
part A pins: 1 PRE (in), 2 Q (out), 3 ~{Q} (out), 13 CLR (in), 14 CLK (in), 15 K (in), 16 J (in)
part B pins: 5 ~{Q} (out), 6 Q (out), 7 PRE (in), 8 J (in), 9 K (in), 10 CLK (in), 11 CLR (in)

## 54ACT11174FK
designator U?
Hex D-Type Flip-Flop with Clear; Published: 8-Jun-2000; LatestRevisionDate: 17-Jul-2002; LatestRevisionNote: Re-released for DXP Platform.; DatasheetVersion: Mar-1990; PackageVersion: 1998; PackageReference: FK020D; Publisher: Altium Limited; PackageDescription: Leadless Chip Carrier; 20 Terminals; Body 8.9 x 8.9 mm; ComponentLink1Description: Manufacturer Link; ComponentLink1URL: http://www.ti.com/
footprint FK020D (Leadless Chip Carrier; 20 Terminals; Body 8.9 x 8.9 mm)
signal-integrity model 54ACT11174FK
pins: 1 VCC (power), 2 D3 (in), 3 D2 (in), 4 D1 (in), 5 ~{CLR} (in), 6 Q1 (out), 7 Q2 (out), 8 Q3 (out), 9 GND (power), 10 GND (power), 11 GND (power), 12 GND (power), 13 Q4 (out), 14 Q5 (out), 15 Q6 (out), 16 CLK (in), 17 D6 (in), 18 D5 (in), 19 D4 (in), 20 VCC (power)

## 54ACT11174J
designator U?
Hex D-Type Flip-Flop with Clear; Published: 8-Jun-2000; LatestRevisionDate: 04-Mar-2005; LatestRevisionNote: Stylized 3D Model Added.; DatasheetVersion: Mar-1990; PackageVersion: Jun-1999; PackageReference: J020D; Publisher: Altium Limited; PackageDescription: DIP; 20 Leads; Row Spacing 7.62 mm; Pitch 2.54 mm; ComponentLink1Description: Manufacturer Link; ComponentLink1URL: http://www.ti.com/
footprint J020D (DIP; 20 Leads; Row Spacing 7.62 mm; Pitch 2.54 mm)
3D model J020 (DIP; 20 Leads; Row Spacing 7.62 mm; Pitch 2.54 mm)
signal-integrity model 54ACT11174J
pins: 1 Q1 (out), 2 Q2 (out), 3 Q3 (out), 4 GND (power), 5 GND (power), 6 GND (power), 7 GND (power), 8 Q4 (out), 9 Q5 (out), 10 Q6 (out), 11 CLK (in), 12 D6 (in), 13 D5 (in), 14 D4 (in), 15 VCC (power), 16 VCC (power), 17 D3 (in), 18 D2 (in), 19 D1 (in), 20 ~{CLR} (in)

## 54ACT11175FK
designator U?
Quadruple D-Type Flip-Flop with Clear; Published: 8-Jun-2000; LatestRevisionDate: 17-Jul-2002; LatestRevisionNote: Re-released for DXP Platform.; DatasheetVersion: Dec-1989; PackageVersion: 1998; PackageReference: FK020D; Publisher: Altium Limited; PackageDescription: Leadless Chip Carrier; 20 Terminals; Body 8.9 x 8.9 mm; ComponentLink1Description: Manufacturer Link; ComponentLink1URL: http://www.ti.com/
footprint FK020D (Leadless Chip Carrier; 20 Terminals; Body 8.9 x 8.9 mm)
signal-integrity model 54ACT11175FK
pins: 1 VCC (power), 2 D2 (in), 3 D1 (in), 4 ~{CLR} (in), 5 Q1 (out), 6 ~{Q}1 (out), 7 Q2 (out), 8 ~{Q}2 (out), 9 GND (power), 10 GND (power), 11 GND (power), 12 GND (power), 13 Q3 (out), 14 ~{Q}3 (out), 15 Q4 (out), 16 ~{Q}4 (out), 17 CLK (in), 18 D4 (in), 19 D3 (in), 20 VCC (power)

## 54ACT11175J
designator U?
Quadruple D-Type Flip-Flop with Clear; Published: 8-Jun-2000; LatestRevisionDate: 04-Mar-2005; LatestRevisionNote: Stylized 3D Model Added.; DatasheetVersion: Dec-1989; PackageVersion: Jun-1999; PackageReference: J020D; Publisher: Altium Limited; PackageDescription: DIP; 20 Leads; Row Spacing 7.62 mm; Pitch 2.54 mm; ComponentLink1Description: Manufacturer Link; ComponentLink1URL: http://www.ti.com/
footprint J020D (DIP; 20 Leads; Row Spacing 7.62 mm; Pitch 2.54 mm)
3D model J020 (DIP; 20 Leads; Row Spacing 7.62 mm; Pitch 2.54 mm)
signal-integrity model 54ACT11175J
pins: 1 ~{Q}1 (out), 2 Q2 (out), 3 ~{Q}2 (out), 4 GND (power), 5 GND (power), 6 GND (power), 7 GND (power), 8 Q3 (out), 9 ~{Q}3 (out), 10 Q4 (out), 11 ~{Q}4 (out), 12 CLK (in), 13 D4 (in), 14 D3 (in), 15 VCC (power), 16 VCC (power), 17 D2 (in), 18 D1 (in), 19 ~{CLR} (in), 20 Q1 (out)

## 54ACT11374FK
designator U?
Octal D-Type Edge-Triggered Flip-Flop with 3-State Outputs; Note: Pins No 1,8,15 and 22 are not connected.; ComponentAvailability: Obsolete; Published: 8-Jun-2000; LatestRevisionDate: 17-Jul-2002; LatestRevisionNote: Re-released for DXP Platform.; DatasheetVersion: Mar-1990; PackageVersion: 1998; PackageReference: FK028D; Publisher: Altium Limited; PackageDescription: Leadless Chip Carrier; 28 Terminals; Body 11.4 x 11.4 mm; ComponentLink1Description: Manufacturer Link; ComponentLink1URL: http://www.ti.com/; ComponentLink2Description: Discontinuation Notice; ComponentLink2URL: http://focus.ti.com/pdfs/mltry/obsolete.pdf
footprint FK028D (Leadless Chip Carrier; 28 Terminals; Body 11.4 x 11.4 mm)
signal-integrity model 54ACT11374FK
pins: 2 VCC (power), 3 D4 (in), 4 D3 (in), 5 D2 (in), 6 D1 (in), 7 ~{OE} (in), 9 Q1 (hiz), 10 Q2 (hiz), 11 Q3 (hiz), 12 Q4 (hiz), 13 GND (power), 14 GND (power), 16 GND (power), 17 GND (power), 18 Q5 (hiz), 19 Q6 (hiz), 20 Q7 (hiz), 21 Q8 (hiz), 23 CLK (in), 24 D8 (in), 25 D7 (in), 26 D6 (in), 27 D5 (in), 28 VCC (power)

## 54ACT11374JT
designator U?
Octal D-Type Edge-Triggered Flip-Flop with 3-State Outputs; ComponentAvailability: Obsolete; Published: 8-Jun-2000; LatestRevisionDate: 04-Mar-2005; LatestRevisionNote: Stylized 3D Model Added.; DatasheetVersion: Mar-1990; PackageVersion: Jan-1997; PackageReference: JT024D; Publisher: Altium Limited; PackageDescription: DIP; 24 Leads; Row Spacing 7.62 mm; Pitch 2.54 mm; Code_JEDEC: MS-001-AF; ComponentLink1Description: Manufacturer Link; ComponentLink1URL: http://www.ti.com/; ComponentLink2Description: Discontinuation Notice; ComponentLink2URL: http://focus.ti.com/pdfs/mltry/obsolete.pdf
footprint JT024D (DIP; 24 Leads; Row Spacing 7.62 mm; Pitch 2.54 mm)
3D model JT024 (DIP; 24 Leads; Row Spacing 7.62 mm; Pitch 2.54 mm)
signal-integrity model 54ACT11374JT
pins: 1 Q1 (hiz), 2 Q2 (hiz), 3 Q3 (hiz), 4 Q4 (hiz), 5 GND (power), 6 GND (power), 7 GND (power), 8 GND (power), 9 Q5 (hiz), 10 Q6 (hiz), 11 Q7 (hiz), 12 Q8 (hiz), 13 CLK (in), 14 D8 (in), 15 D7 (in), 16 D6 (in), 17 D5 (in), 18 VCC (power), 19 VCC (power), 20 D4 (in), 21 D3 (in), 22 D2 (in), 23 D1 (in), 24 ~{OE} (in)

## 54ACT11377FK
designator U?
Octal D-Type Flip-Flop with Clock Enable; Note: Pins No 1,8,15 and 22 are not connected.; Published: 8-Jun-2000; LatestRevisionDate: 17-Jul-2002; LatestRevisionNote: Re-released for DXP Platform.; DatasheetVersion: Mar-1990; PackageVersion: 1998; PackageReference: FK028D; Publisher: Altium Limited; PackageDescription: Leadless Chip Carrier; 28 Terminals; Body 11.4 x 11.4 mm; ComponentLink1Description: Manufacturer Link; ComponentLink1URL: http://www.ti.com/
footprint FK028D (Leadless Chip Carrier; 28 Terminals; Body 11.4 x 11.4 mm)
signal-integrity model 54ACT11377FK
pins: 2 VCC (power), 3 D4 (in), 4 D3 (in), 5 D2 (in), 6 D1 (in), 7 ~{CLKEN} (in), 9 Q1 (out), 10 Q2 (out), 11 Q3 (out), 12 Q4 (out), 13 GND (power), 14 GND (power), 16 GND (power), 17 GND (power), 18 Q5 (out), 19 Q6 (out), 20 Q7 (out), 21 Q8 (out), 23 CLK (in), 24 D8 (in), 25 D7 (in), 26 D6 (in), 27 D5 (in), 28 VCC (power)

## 54ACT11377JT
designator U?
Octal D-Type Flip-Flop with Clock Enable; Published: 8-Jun-2000; LatestRevisionDate: 04-Mar-2005; LatestRevisionNote: Stylized 3D Model Added.; DatasheetVersion: Mar-1990; PackageVersion: Jan-1997; PackageReference: JT024D; Publisher: Altium Limited; PackageDescription: DIP; 24 Leads; Row Spacing 7.62 mm; Pitch 2.54 mm; Code_JEDEC: MS-001-AF; ComponentLink1Description: Manufacturer Link; ComponentLink1URL: http://www.ti.com/
footprint JT024D (DIP; 24 Leads; Row Spacing 7.62 mm; Pitch 2.54 mm)
3D model JT024 (DIP; 24 Leads; Row Spacing 7.62 mm; Pitch 2.54 mm)
signal-integrity model 54ACT11377JT
pins: 1 Q1 (out), 2 Q2 (out), 3 Q3 (out), 4 Q4 (out), 5 GND (power), 6 GND (power), 7 GND (power), 8 GND (power), 9 Q5 (out), 10 Q6 (out), 11 Q7 (out), 12 Q8 (out), 13 CLK (in), 14 D8 (in), 15 D7 (in), 16 D6 (in), 17 D5 (in), 18 VCC (power), 19 VCC (power), 20 D4 (in), 21 D3 (in), 22 D2 (in), 23 D1 (in), 24 ~{CLKEN} (in)

## 54ACT11379FK
designator U?
Quadruple D-Type Flip-Flop with Clock Enable; Published: 8-Jun-2000; LatestRevisionDate: 17-Jul-2002; LatestRevisionNote: Re-released for DXP Platform.; DatasheetVersion: Mar-1990; PackageVersion: 1998; PackageReference: FK020D; Publisher: Altium Limited; PackageDescription: Leadless Chip Carrier; 20 Terminals; Body 8.9 x 8.9 mm; ComponentLink1Description: Manufacturer Link; ComponentLink1URL: http://www.ti.com/
footprint FK020D (Leadless Chip Carrier; 20 Terminals; Body 8.9 x 8.9 mm)
signal-integrity model 54ACT11379FK
pins: 1 VCC (power), 2 D2 (in), 3 D1 (in), 4 ~{CLKEN} (in), 5 Q1 (out), 6 ~{Q}1 (out), 7 Q2 (out), 8 ~{Q}2 (out), 9 GND (power), 10 GND (power), 11 GND (power), 12 GND (power), 13 Q3 (out), 14 ~{Q}3 (out), 15 Q4 (out), 16 ~{Q}4 (out), 17 CLK (in), 18 D4 (in), 19 D3 (in), 20 VCC (power)

## 54ACT11379J
designator U?
Quadruple D-Type Flip-Flop with Clock Enable; Published: 8-Jun-2000; LatestRevisionDate: 04-Mar-2005; LatestRevisionNote: Stylized 3D Model Added.; DatasheetVersion: Mar-1990; PackageVersion: Jun-1999; PackageReference: J020D; Publisher: Altium Limited; PackageDescription: DIP; 20 Leads; Row Spacing 7.62 mm; Pitch 2.54 mm; ComponentLink1Description: Manufacturer Link; ComponentLink1URL: http://www.ti.com/
footprint J020D (DIP; 20 Leads; Row Spacing 7.62 mm; Pitch 2.54 mm)
3D model J020 (DIP; 20 Leads; Row Spacing 7.62 mm; Pitch 2.54 mm)
signal-integrity model 54ACT11379J
pins: 1 ~{Q}1 (out), 2 Q2 (out), 3 ~{Q}2 (out), 4 GND (power), 5 GND (power), 6 GND (power), 7 GND (power), 8 Q3 (out), 9 ~{Q}3 (out), 10 Q4 (out), 11 ~{Q}4 (out), 12 CLK (in), 13 D4 (in), 14 D3 (in), 15 VCC (power), 16 VCC (power), 17 D2 (in), 18 D1 (in), 19 ~{CLKEN} (in), 20 Q1 (out)

## 54ACT11478FK
designator U?
Metastable-Resistant Octal D-Type Dual-Rank Flip-Flop with 3-State Output; Note: Pins No 1,8,15 and 22 are not connected.; Published: 8-Jun-2000; LatestRevisionDate: 17-Jul-2002; LatestRevisionNote: Re-released for DXP Platform.; DatasheetVersion: Apr-1990; PackageVersion: 1998; PackageReference: FK028D; Publisher: Altium Limited; PackageDescription: Leadless Chip Carrier; 28 Terminals; Body 11.4 x 11.4 mm; ComponentLink1Description: Manufacturer Link; ComponentLink1URL: http://www.ti.com/
footprint FK028D (Leadless Chip Carrier; 28 Terminals; Body 11.4 x 11.4 mm)
signal-integrity model 54ACT11478FK
pins: 2 VCC (power), 3 D4 (in), 4 D3 (in), 5 D2 (in), 6 D1 (in), 7 ~{OE} (in), 9 Q1 (hiz), 10 Q2 (hiz), 11 Q3 (hiz), 12 Q4 (hiz), 13 GND (power), 14 GND (power), 16 GND (power), 17 GND (power), 18 Q5 (hiz), 19 Q6 (hiz), 20 Q7 (hiz), 21 Q8 (hiz), 23 CLK (in), 24 D8 (in), 25 D7 (in), 26 D6 (in), 27 D5 (in), 28 VCC (power)

## 54ACT11478JT
designator U?
Metastable-Resistant Octal D-Type Dual-Rank Flip-Flop with 3-State Output; Published: 8-Jun-2000; LatestRevisionDate: 04-Mar-2005; LatestRevisionNote: Stylized 3D Model Added.; DatasheetVersion: Apr-1990; PackageVersion: Jan-1997; PackageReference: JT024D; Publisher: Altium Limited; PackageDescription: DIP; 24 Leads; Row Spacing 7.62 mm; Pitch 2.54 mm; Code_JEDEC: MS-001-AF; ComponentLink1Description: Manufacturer Link; ComponentLink1URL: http://www.ti.com/
footprint JT024D (DIP; 24 Leads; Row Spacing 7.62 mm; Pitch 2.54 mm)
3D model JT024 (DIP; 24 Leads; Row Spacing 7.62 mm; Pitch 2.54 mm)
signal-integrity model 54ACT11478JT
pins: 1 Q1 (hiz), 2 Q2 (hiz), 3 Q3 (hiz), 4 Q4 (hiz), 5 GND (power), 6 GND (power), 7 GND (power), 8 GND (power), 9 Q5 (hiz), 10 Q6 (hiz), 11 Q7 (hiz), 12 Q8 (hiz), 13 CLK (in), 14 D8 (in), 15 D7 (in), 16 D6 (in), 17 D5 (in), 18 VCC (power), 19 VCC (power), 20 D4 (in), 21 D3 (in), 22 D2 (in), 23 D1 (in), 24 ~{OE} (in)

## 54ACT11534FK
designator U?
Octal D-Type Edge-Triggered Flip-Flop with 3-State Outputs; Note: Pins No 1,8,15 and 22 are not connected.; Published: 8-Jun-2000; LatestRevisionDate: 17-Jul-2002; LatestRevisionNote: Re-released for DXP Platform.; DatasheetVersion: Mar-1990; PackageVersion: 1998; PackageReference: FK028D; Publisher: Altium Limited; PackageDescription: Leadless Chip Carrier; 28 Terminals; Body 11.4 x 11.4 mm; ComponentLink1Description: Manufacturer Link; ComponentLink1URL: http://www.ti.com/; ComponentLink2Description: Datasheet; ComponentLink2URL: http://www-s.ti.com/sc/ds/74act11534.pdf
footprint FK028D (Leadless Chip Carrier; 28 Terminals; Body 11.4 x 11.4 mm)
signal-integrity model 54ACT11534FK
pins: 2 VCC (power), 3 D4 (in), 4 D3 (in), 5 D2 (in), 6 D1 (in), 7 ~{OE} (in), 9 ~{Q}1 (hiz), 10 ~{Q}2 (hiz), 11 ~{Q}3 (hiz), 12 ~{Q}4 (hiz), 13 GND (power), 14 GND (power), 16 GND (power), 17 GND (power), 18 ~{Q}5 (hiz), 19 ~{Q}6 (hiz), 20 ~{Q}7 (hiz), 21 ~{Q}8 (hiz), 23 CLK (in), 24 D8 (in), 25 D7 (in), 26 D6 (in), 27 D5 (in), 28 VCC (power)

## 54ACT11534JT
designator U?
Octal D-Type Edge-Triggered Flip-Flop with 3-State Outputs; Published: 8-Jun-2000; LatestRevisionDate: 04-Mar-2005; LatestRevisionNote: Stylized 3D Model Added.; DatasheetVersion: Mar-1990; PackageVersion: Jan-1997; PackageReference: JT024D; Publisher: Altium Limited; PackageDescription: DIP; 24 Leads; Row Spacing 7.62 mm; Pitch 2.54 mm; Code_JEDEC: MS-001-AF; ComponentLink1Description: Manufacturer Link; ComponentLink1URL: http://www.ti.com/; ComponentLink2Description: Datasheet; ComponentLink2URL: http://www-s.ti.com/sc/ds/74act11534.pdf
footprint JT024D (DIP; 24 Leads; Row Spacing 7.62 mm; Pitch 2.54 mm)
3D model JT024 (DIP; 24 Leads; Row Spacing 7.62 mm; Pitch 2.54 mm)
signal-integrity model 54ACT11534JT
pins: 1 ~{Q}1 (hiz), 2 ~{Q}2 (hiz), 3 ~{Q}3 (hiz), 4 ~{Q}4 (hiz), 5 GND (power), 6 GND (power), 7 GND (power), 8 GND (power), 9 ~{Q}5 (hiz), 10 ~{Q}6 (hiz), 11 ~{Q}7 (hiz), 12 ~{Q}8 (hiz), 13 CLK (in), 14 D8 (in), 15 D7 (in), 16 D6 (in), 17 D5 (in), 18 VCC (power), 19 VCC (power), 20 D4 (in), 21 D3 (in), 22 D2 (in), 23 D1 (in), 24 ~{OE} (in)

## 54ACT11821FK
designator U?
10-Bit Bus-Interface Flip-Flop with 3-State Outputs; Published: 8-Jun-2000; LatestRevisionDate: 17-Jul-2002; LatestRevisionNote: Re-released for DXP Platform.; DatasheetVersion: Apr-1993; PackageVersion: 1998; PackageReference: FK028C; Publisher: Altium Limited; PackageDescription: Leadless Chip Carrier; 28 Terminals; Body 11.4 x 11.4 mm; ComponentLink1Description: Manufacturer Link; ComponentLink1URL: http://www.ti.com/; ComponentLink2Description: Datasheet; ComponentLink2URL: http://www-s.ti.com/sc/ds/74act11821.pdf
footprint FK028C (Leadless Chip Carrier; 28 Terminals; Body 11.4 x 11.4 mm)
signal-integrity model 54ACT11821FK
pins: 1 VCC (power), 2 D5 (in), 3 D4 (in), 4 D3 (in), 5 D2 (in), 6 D1 (in), 7 ~{OE} (in), 8 Q1 (hiz), 9 Q2 (hiz), 10 Q3 (hiz), 11 Q4 (hiz), 12 Q5 (hiz), 13 GND (power), 14 GND (power), 15 GND (power), 16 GND (power), 17 Q6 (hiz), 18 Q7 (hiz), 19 Q8 (hiz), 20 Q9 (hiz), 21 Q10 (hiz), 22 CLK (in), 23 D10 (in), 24 D9 (in), 25 D8 (in), 26 D7 (in), 27 D6 (in), 28 VCC (power)

## 54ACT11821JT
designator U?
10-Bit Bus-Interface Flip-Flop with 3-State Outputs; Published: 8-Jun-2000; LatestRevisionDate: 04-Mar-2005; LatestRevisionNote: Stylized 3D Model Added.; DatasheetVersion: Apr-1993; PackageVersion: Jan-1997; PackageReference: JT028C; Publisher: Altium Limited; PackageDescription: DIP; 28 Leads; Row Spacing 7.62 mm; Pitch 2.54 mm; ComponentLink1Description: Manufacturer Link; ComponentLink1URL: http://www.ti.com/; ComponentLink2Description: Datasheet; ComponentLink2URL: http://www-s.ti.com/sc/ds/74act11821.pdf
footprint JT028C (DIP; 28 Leads; Row Spacing 7.62 mm; Pitch 2.54 mm)
3D model JT028 (DIP; 28 Leads; Row Spacing 7.62 mm; Pitch 2.54 mm)
signal-integrity model 54ACT11821JT
pins: 1 Q1 (hiz), 2 Q2 (hiz), 3 Q3 (hiz), 4 Q4 (hiz), 5 Q5 (hiz), 6 GND (power), 7 GND (power), 8 GND (power), 9 GND (power), 10 Q6 (hiz), 11 Q7 (hiz), 12 Q8 (hiz), 13 Q9 (hiz), 14 Q10 (hiz), 15 CLK (in), 16 D10 (in), 17 D9 (in), 18 D8 (in), 19 D7 (in), 20 D6 (in), 21 VCC (power), 22 VCC (power), 23 D5 (in), 24 D4 (in), 25 D3 (in), 26 D2 (in), 27 D1 (in), 28 ~{OE} (in)

## 54ACT11874FK
designator U?
Dual 4-Bit D-Type Edge-Triggered Flip-Flop with 3-State Outputs; Published: 8-Jun-2000; LatestRevisionDate: 17-Jul-2002; LatestRevisionNote: Re-released for DXP Platform.; DatasheetVersion: Mar-1990; PackageVersion: 1998; PackageReference: FK028D; Publisher: Altium Limited; PackageDescription: Leadless Chip Carrier; 28 Terminals; Body 11.4 x 11.4 mm; ComponentLink1Description: Manufacturer Link; ComponentLink1URL: http://www.ti.com/
footprint FK028D (Leadless Chip Carrier; 28 Terminals; Body 11.4 x 11.4 mm)
signal-integrity model 54ACT11874FK
pins on every part: 1 VCC (power) hidden to VCC, 13 GND (power) hidden to GND, 14 GND (power) hidden to GND, 15 GND (power) hidden to GND, 16 GND (power) hidden to GND, 28 VCC (power) hidden to VCC
part A pins: 2 D4 (in), 3 D3 (in), 4 D2 (in), 5 D1 (in), 6 ~{CLR} (in), 7 ~{OE} (in), 8 CLK (in), 9 Q1 (hiz), 10 Q2 (hiz), 11 Q3 (hiz), 12 Q4 (hiz)
part B pins: 17 Q1 (hiz), 18 Q2 (hiz), 19 Q3 (hiz), 20 Q4 (hiz), 21 CLK (in), 22 ~{OE} (in), 23 ~{CLR} (in), 24 D4 (in), 25 D3 (in), 26 D2 (in), 27 D1 (in)